# EAGLE library part MCP4631T (library MCP4631T)
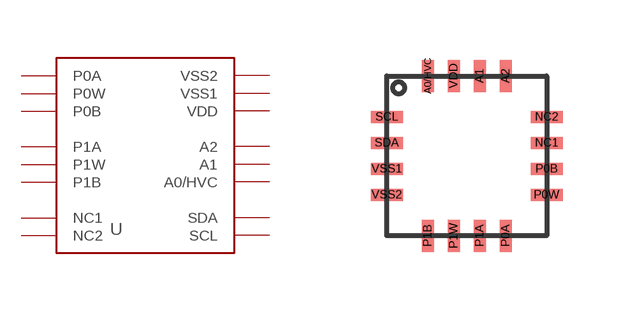
[diagram p0: symbol with the pads of 16QFN; footprint 16QFN]

Designator prefix -

## MCP4631T  [16QFN]
A0/HVC  A0/HVC
A1  A1
A2  A2
NC1  NC1
NC2  NC2
P0A  P0A
P0B  P0B
P0W  P0W
P1A  P1A
P1B  P1B
P1W  P1W
SCL  SCL
SDA  SDA
VDD  VDD  pwr
VSS1  VSS1  pwr
VSS2  VSS2  pwr

## Footprint 16QFN (pad centres in mm)
smd 0.3 x 0.8: A0/HVC -0.975,2; A1 0.325,2; A2 0.975,2; P0A 0.975,-2; P1A 0.325,-2; P1B -0.975,-2; P1W -0.325,-2; VDD -0.325,2
smd 0.8 x 0.3: NC1 2,0.325; NC2 2,0.975; P0B 2,-0.325; P0W 2,-0.975; SCL -2,0.975; SDA -2,0.325; VSS1 -2,-0.325; VSS2 -2,-0.975